# Altium footprint library Xilinx.PcbLib: 3 footprints (part 3 of 3)
Each footprint in its own frame and in the unit in brackets; x right, y up, seen from the top. Pads: shape width x height; smd on the part's side, far side on the other; paste and mask are expansions set on the pad; w line width, h text height; cw(c..) or ccw(c..) is an arc to the next point about the centre after c.
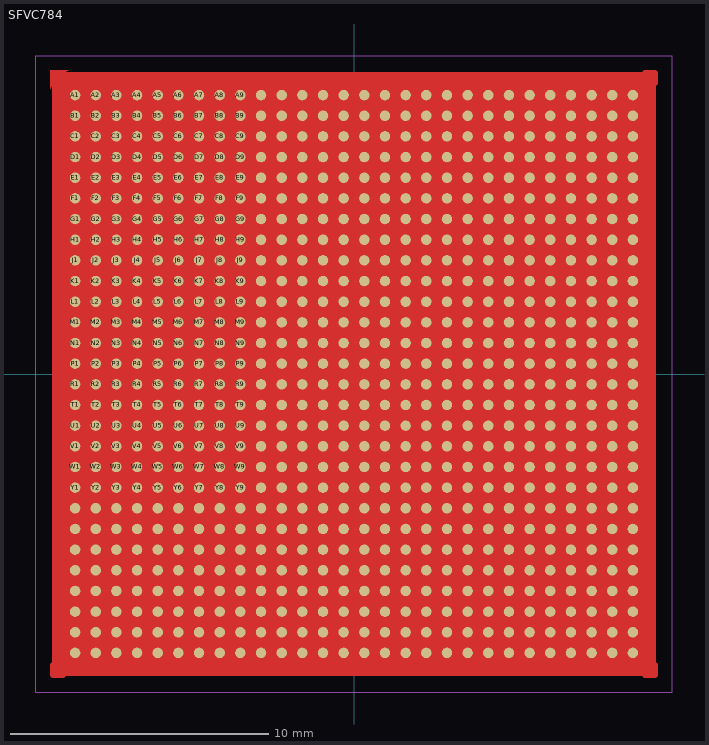
[diagram p2: the footprint, top view; thin cyan lines are the x and y axes]

## SFVC784 [mm]
pads (784):
  round 0.406 smd mask+0.038: A1(-10.8,10.8) A2(-10,10.8) A3(-9.2,10.8) A4(-8.4,10.8) A5(-7.6,10.8) A6(-6.8,10.8) A7(-6,10.8) A8(-5.2,10.8) A9(-4.4,10.8) A10(-3.6,10.8) A11(-2.8,10.8) A12(-2,10.8) A13(-1.2,10.8) A14(-0.4,10.8) A15(0.4,10.8) A16(1.2,10.8) A17(2,10.8) A18(2.8,10.8) A19(3.6,10.8) A20(4.4,10.8) A21(5.2,10.8) A22(6,10.8) A23(6.8,10.8) A24(7.6,10.8) A25(8.4,10.8) A26(9.2,10.8) A27(10,10.8) A28(10.8,10.8) AA1(-10.8,-5.2) AA2(-10,-5.2) AA3(-9.2,-5.2) AA4(-8.4,-5.2) AA5(-7.6,-5.2) AA6(-6.8,-5.2) AA7(-6,-5.2) AA8(-5.2,-5.2) AA9(-4.4,-5.2) AA10(-3.6,-5.2) AA11(-2.8,-5.2) AA12(-2,-5.2) AA13(-1.2,-5.2) AA14(-0.4,-5.2) AA15(0.4,-5.2) AA16(1.2,-5.2) AA17(2,-5.2) AA18(2.8,-5.2) AA19(3.6,-5.2) AA20(4.4,-5.2) AA21(5.2,-5.2) AA22(6,-5.2) AA23(6.8,-5.2) AA24(7.6,-5.2) AA25(8.4,-5.2) AA26(9.2,-5.2) AA27(10,-5.2) AA28(10.8,-5.2) AB1(-10.8,-6) AB2(-10,-6) AB3(-9.2,-6) AB4(-8.4,-6) AB5(-7.6,-6) AB6(-6.8,-6) AB7(-6,-6) AB8(-5.2,-6) AB9(-4.4,-6) AB10(-3.6,-6) AB11(-2.8,-6) AB12(-2,-6) AB13(-1.2,-6) AB14(-0.4,-6) AB15(0.4,-6) AB16(1.2,-6) AB17(2,-6) AB18(2.8,-6) AB19(3.6,-6) AB20(4.4,-6) AB21(5.2,-6) AB22(6,-6) AB23(6.8,-6) AB24(7.6,-6) AB25(8.4,-6) AB26(9.2,-6) AB27(10,-6) AB28(10.8,-6) AC1(-10.8,-6.8) AC2(-10,-6.8) AC3(-9.2,-6.8) AC4(-8.4,-6.8) AC5(-7.6,-6.8) AC6(-6.8,-6.8) AC7(-6,-6.8) AC8(-5.2,-6.8) AC9(-4.4,-6.8) AC10(-3.6,-6.8) AC11(-2.8,-6.8) AC12(-2,-6.8) AC13(-1.2,-6.8) AC14(-0.4,-6.8) AC15(0.4,-6.8) AC16(1.2,-6.8) AC17(2,-6.8) AC18(2.8,-6.8) AC19(3.6,-6.8) AC20(4.4,-6.8) AC21(5.2,-6.8) AC22(6,-6.8) AC23(6.8,-6.8) AC24(7.6,-6.8) AC25(8.4,-6.8) AC26(9.2,-6.8) AC27(10,-6.8) AC28(10.8,-6.8) AD1(-10.8,-7.6) AD2(-10,-7.6) AD3(-9.2,-7.6) AD4(-8.4,-7.6) AD5(-7.6,-7.6) AD6(-6.8,-7.6) AD7(-6,-7.6) AD8(-5.2,-7.6) AD9(-4.4,-7.6) AD10(-3.6,-7.6) AD11(-2.8,-7.6) AD12(-2,-7.6) AD13(-1.2,-7.6) AD14(-0.4,-7.6) AD15(0.4,-7.6) AD16(1.2,-7.6) AD17(2,-7.6) AD18(2.8,-7.6) AD19(3.6,-7.6) AD20(4.4,-7.6) AD21(5.2,-7.6) AD22(6,-7.6) AD23(6.8,-7.6) AD24(7.6,-7.6) AD25(8.4,-7.6) AD26(9.2,-7.6) AD27(10,-7.6) AD28(10.8,-7.6) AE1(-10.8,-8.4) AE2(-10,-8.4) AE3(-9.2,-8.4) AE4(-8.4,-8.4) AE5(-7.6,-8.4) AE6(-6.8,-8.4) AE7(-6,-8.4) AE8(-5.2,-8.4) AE9(-4.4,-8.4) AE10(-3.6,-8.4) AE11(-2.8,-8.4) AE12(-2,-8.4) AE13(-1.2,-8.4) AE14(-0.4,-8.4) AE15(0.4,-8.4) AE16(1.2,-8.4) AE17(2,-8.4) AE18(2.8,-8.4) AE19(3.6,-8.4) AE20(4.4,-8.4) AE21(5.2,-8.4) AE22(6,-8.4) AE23(6.8,-8.4) AE24(7.6,-8.4) AE25(8.4,-8.4) AE26(9.2,-8.4) AE27(10,-8.4) AE28(10.8,-8.4) AF1(-10.8,-9.2) AF2(-10,-9.2) AF3(-9.2,-9.2) AF4(-8.4,-9.2) AF5(-7.6,-9.2) AF6(-6.8,-9.2) AF7(-6,-9.2) AF8(-5.2,-9.2) AF9(-4.4,-9.2) AF10(-3.6,-9.2) AF11(-2.8,-9.2) AF12(-2,-9.2) AF13(-1.2,-9.2) AF14(-0.4,-9.2) AF15(0.4,-9.2) AF16(1.2,-9.2) AF17(2,-9.2) AF18(2.8,-9.2) AF19(3.6,-9.2) AF20(4.4,-9.2) AF21(5.2,-9.2) AF22(6,-9.2) AF23(6.8,-9.2) AF24(7.6,-9.2) AF25(8.4,-9.2) AF26(9.2,-9.2) AF27(10,-9.2) AF28(10.8,-9.2) AG1(-10.8,-10) AG2(-10,-10) AG3(-9.2,-10) AG4(-8.4,-10) AG5(-7.6,-10) AG6(-6.8,-10) AG7(-6,-10) AG8(-5.2,-10) AG9(-4.4,-10) AG10(-3.6,-10) AG11(-2.8,-10) AG12(-2,-10) AG13(-1.2,-10) AG14(-0.4,-10) AG15(0.4,-10) AG16(1.2,-10) AG17(2,-10) AG18(2.8,-10) AG19(3.6,-10) AG20(4.4,-10) AG21(5.2,-10) AG22(6,-10) AG23(6.8,-10) AG24(7.6,-10) AG25(8.4,-10) AG26(9.2,-10) AG27(10,-10) AG28(10.8,-10) AH1(-10.8,-10.8) AH2(-10,-10.8) AH3(-9.2,-10.8) AH4(-8.4,-10.8) AH5(-7.6,-10.8) AH6(-6.8,-10.8) AH7(-6,-10.8) AH8(-5.2,-10.8) AH9(-4.4,-10.8) AH10(-3.6,-10.8) AH11(-2.8,-10.8) AH12(-2,-10.8) AH13(-1.2,-10.8) AH14(-0.4,-10.8) AH15(0.4,-10.8) AH16(1.2,-10.8) AH17(2,-10.8) AH18(2.8,-10.8) AH19(3.6,-10.8) AH20(4.4,-10.8) AH21(5.2,-10.8) AH22(6,-10.8) AH23(6.8,-10.8) AH24(7.6,-10.8) AH25(8.4,-10.8) AH26(9.2,-10.8) AH27(10,-10.8) AH28(10.8,-10.8) B1(-10.8,10) B2(-10,10) B3(-9.2,10) B4(-8.4,10) B5(-7.6,10) B6(-6.8,10) B7(-6,10) B8(-5.2,10) B9(-4.4,10) B10(-3.6,10) B11(-2.8,10) B12(-2,10) B13(-1.2,10) B14(-0.4,10) B15(0.4,10) B16(1.2,10) B17(2,10) B18(2.8,10) B19(3.6,10) B20(4.4,10) B21(5.2,10) B22(6,10) B23(6.8,10) B24(7.6,10) B25(8.4,10) B26(9.2,10) B27(10,10) B28(10.8,10) C1(-10.8,9.2) C2(-10,9.2) C3(-9.2,9.2) C4(-8.4,9.2) C5(-7.6,9.2) C6(-6.8,9.2) C7(-6,9.2) C8(-5.2,9.2) C9(-4.4,9.2) C10(-3.6,9.2) C11(-2.8,9.2) C12(-2,9.2) C13(-1.2,9.2) C14(-0.4,9.2) C15(0.4,9.2) C16(1.2,9.2) C17(2,9.2) C18(2.8,9.2) C19(3.6,9.2) C20(4.4,9.2) C21(5.2,9.2) C22(6,9.2) C23(6.8,9.2) C24(7.6,9.2) C25(8.4,9.2) C26(9.2,9.2) C27(10,9.2) C28(10.8,9.2) D1(-10.8,8.4) D2(-10,8.4) D3(-9.2,8.4) D4(-8.4,8.4) D5(-7.6,8.4) D6(-6.8,8.4) D7(-6,8.4) D8(-5.2,8.4) D9(-4.4,8.4) D10(-3.6,8.4) D11(-2.8,8.4) D12(-2,8.4) D13(-1.2,8.4) D14(-0.4,8.4) D15(0.4,8.4) D16(1.2,8.4) D17(2,8.4) D18(2.8,8.4) D19(3.6,8.4) D20(4.4,8.4) D21(5.2,8.4) D22(6,8.4) D23(6.8,8.4) D24(7.6,8.4) D25(8.4,8.4) D26(9.2,8.4) D27(10,8.4) D28(10.8,8.4) E1(-10.8,7.6) E2(-10,7.6) E3(-9.2,7.6) E4(-8.4,7.6) E5(-7.6,7.6) E6(-6.8,7.6) E7(-6,7.6) E8(-5.2,7.6) E9(-4.4,7.6) E10(-3.6,7.6) E11(-2.8,7.6) E12(-2,7.6) E13(-1.2,7.6) E14(-0.4,7.6) E15(0.4,7.6) E16(1.2,7.6) E17(2,7.6) E18(2.8,7.6) E19(3.6,7.6) E20(4.4,7.6) E21(5.2,7.6) E22(6,7.6) E23(6.8,7.6) E24(7.6,7.6) E25(8.4,7.6) E26(9.2,7.6) E27(10,7.6) E28(10.8,7.6) F1(-10.8,6.8) F2(-10,6.8) F3(-9.2,6.8) F4(-8.4,6.8) F5(-7.6,6.8) F6(-6.8,6.8) F7(-6,6.8) F8(-5.2,6.8) F9(-4.4,6.8) F10(-3.6,6.8) F11(-2.8,6.8) F12(-2,6.8) F13(-1.2,6.8) F14(-0.4,6.8) F15(0.4,6.8) F16(1.2,6.8) F17(2,6.8) F18(2.8,6.8) F19(3.6,6.8) F20(4.4,6.8) F21(5.2,6.8) F22(6,6.8) F23(6.8,6.8) F24(7.6,6.8) F25(8.4,6.8) F26(9.2,6.8) F27(10,6.8) F28(10.8,6.8) G1(-10.8,6) G2(-10,6) G3(-9.2,6) G4(-8.4,6) G5(-7.6,6) G6(-6.8,6) G7(-6,6) G8(-5.2,6) G9(-4.4,6) G10(-3.6,6) G11(-2.8,6) G12(-2,6) G13(-1.2,6) G14(-0.4,6) G15(0.4,6) G16(1.2,6) G17(2,6) G18(2.8,6) G19(3.6,6) G20(4.4,6) G21(5.2,6) G22(6,6) G23(6.8,6) G24(7.6,6) G25(8.4,6) G26(9.2,6) G27(10,6) G28(10.8,6) H1(-10.8,5.2) H2(-10,5.2) H3(-9.2,5.2) H4(-8.4,5.2) H5(-7.6,5.2) H6(-6.8,5.2) H7(-6,5.2) H8(-5.2,5.2) H9(-4.4,5.2) H10(-3.6,5.2) H11(-2.8,5.2) H12(-2,5.2) H13(-1.2,5.2) H14(-0.4,5.2) H15(0.4,5.2) H16(1.2,5.2) H17(2,5.2) H18(2.8,5.2) H19(3.6,5.2) H20(4.4,5.2) H21(5.2,5.2) H22(6,5.2) H23(6.8,5.2) H24(7.6,5.2) H25(8.4,5.2) H26(9.2,5.2) H27(10,5.2) H28(10.8,5.2) J1(-10.8,4.4) J2(-10,4.4) J3(-9.2,4.4) J4(-8.4,4.4) J5(-7.6,4.4) J6(-6.8,4.4) J7(-6,4.4) J8(-5.2,4.4) J9(-4.4,4.4) J10(-3.6,4.4) J11(-2.8,4.4) J12(-2,4.4) J13(-1.2,4.4) J14(-0.4,4.4) J15(0.4,4.4) J16(1.2,4.4) J17(2,4.4) J18(2.8,4.4) J19(3.6,4.4) J20(4.4,4.4) J21(5.2,4.4) J22(6,4.4) J23(6.8,4.4) J24(7.6,4.4) J25(8.4,4.4) J26(9.2,4.4) J27(10,4.4) J28(10.8,4.4) K1(-10.8,3.6) K2(-10,3.6) K3(-9.2,3.6) K4(-8.4,3.6) K5(-7.6,3.6) K6(-6.8,3.6) K7(-6,3.6) K8(-5.2,3.6) K9(-4.4,3.6) K10(-3.6,3.6) K11(-2.8,3.6) K12(-2,3.6) K13(-1.2,3.6) K14(-0.4,3.6) K15(0.4,3.6) K16(1.2,3.6) K17(2,3.6) K18(2.8,3.6) K19(3.6,3.6) K20(4.4,3.6) K21(5.2,3.6) K22(6,3.6) K23(6.8,3.6) K24(7.6,3.6) K25(8.4,3.6) K26(9.2,3.6) K27(10,3.6) K28(10.8,3.6) L1(-10.8,2.8) L2(-10,2.8) L3(-9.2,2.8) L4(-8.4,2.8) L5(-7.6,2.8) L6(-6.8,2.8) L7(-6,2.8) L8(-5.2,2.8) L9(-4.4,2.8) L10(-3.6,2.8) L11(-2.8,2.8) L12(-2,2.8) L13(-1.2,2.8) L14(-0.4,2.8) L15(0.4,2.8) L16(1.2,2.8) L17(2,2.8) L18(2.8,2.8) L19(3.6,2.8) L20(4.4,2.8) L21(5.2,2.8) L22(6,2.8) L23(6.8,2.8) L24(7.6,2.8) L25(8.4,2.8) L26(9.2,2.8) L27(10,2.8) L28(10.8,2.8) M1(-10.8,2) M2(-10,2) M3(-9.2,2) M4(-8.4,2) M5(-7.6,2) M6(-6.8,2) M7(-6,2) M8(-5.2,2) M9(-4.4,2) M10(-3.6,2) M11(-2.8,2) M12(-2,2) M13(-1.2,2) M14(-0.4,2) M15(0.4,2) M16(1.2,2) M17(2,2) M18(2.8,2) M19(3.6,2) M20(4.4,2) M21(5.2,2) M22(6,2) M23(6.8,2) M24(7.6,2) M25(8.4,2) M26(9.2,2) M27(10,2) M28(10.8,2) N1(-10.8,1.2) N2(-10,1.2) N3(-9.2,1.2) N4(-8.4,1.2) N5(-7.6,1.2) N6(-6.8,1.2) N7(-6,1.2) N8(-5.2,1.2) N9(-4.4,1.2) N10(-3.6,1.2) N11(-2.8,1.2) N12(-2,1.2) N13(-1.2,1.2) N14(-0.4,1.2) N15(0.4,1.2) N16(1.2,1.2) N17(2,1.2) N18(2.8,1.2) N19(3.6,1.2) N20(4.4,1.2) N21(5.2,1.2) N22(6,1.2) N23(6.8,1.2) N24(7.6,1.2) N25(8.4,1.2) N26(9.2,1.2) N27(10,1.2) N28(10.8,1.2) P1(-10.8,0.4) P2(-10,0.4) P3(-9.2,0.4) P4(-8.4,0.4) P5(-7.6,0.4) P6(-6.8,0.4) P7(-6,0.4) P8(-5.2,0.4) P9(-4.4,0.4) P10(-3.6,0.4) P11(-2.8,0.4) P12(-2,0.4) P13(-1.2,0.4) P14(-0.4,0.4) P15(0.4,0.4) P16(1.2,0.4) P17(2,0.4) P18(2.8,0.4) P19(3.6,0.4) P20(4.4,0.4) P21(5.2,0.4) P22(6,0.4) P23(6.8,0.4) P24(7.6,0.4) P25(8.4,0.4) P26(9.2,0.4) P27(10,0.4) P28(10.8,0.4) R1(-10.8,-0.4) R2(-10,-0.4) R3(-9.2,-0.4) R4(-8.4,-0.4) R5(-7.6,-0.4) R6(-6.8,-0.4) R7(-6,-0.4) R8(-5.2,-0.4) R9(-4.4,-0.4) R10(-3.6,-0.4) R11(-2.8,-0.4) R12(-2,-0.4) R13(-1.2,-0.4) R14(-0.4,-0.4) R15(0.4,-0.4) R16(1.2,-0.4) R17(2,-0.4) R18(2.8,-0.4) R19(3.6,-0.4) R20(4.4,-0.4) R21(5.2,-0.4) R22(6,-0.4) R23(6.8,-0.4) R24(7.6,-0.4) R25(8.4,-0.4) R26(9.2,-0.4) R27(10,-0.4) R28(10.8,-0.4) T1(-10.8,-1.2) T2(-10,-1.2) T3(-9.2,-1.2) T4(-8.4,-1.2) T5(-7.6,-1.2) T6(-6.8,-1.2) T7(-6,-1.2) T8(-5.2,-1.2) T9(-4.4,-1.2) T10(-3.6,-1.2) T11(-2.8,-1.2) T12(-2,-1.2) T13(-1.2,-1.2) T14(-0.4,-1.2) T15(0.4,-1.2) T16(1.2,-1.2) T17(2,-1.2) T18(2.8,-1.2) T19(3.6,-1.2) T20(4.4,-1.2) T21(5.2,-1.2) T22(6,-1.2) T23(6.8,-1.2) T24(7.6,-1.2) T25(8.4,-1.2) T26(9.2,-1.2) T27(10,-1.2) T28(10.8,-1.2) U1(-10.8,-2) U2(-10,-2) U3(-9.2,-2) U4(-8.4,-2) U5(-7.6,-2) U6(-6.8,-2) U7(-6,-2) U8(-5.2,-2) U9(-4.4,-2) U10(-3.6,-2) U11(-2.8,-2) U12(-2,-2) U13(-1.2,-2) U14(-0.4,-2) U15(0.4,-2) U16(1.2,-2) U17(2,-2) U18(2.8,-2) U19(3.6,-2) U20(4.4,-2) U21(5.2,-2) U22(6,-2) U23(6.8,-2) U24(7.6,-2) U25(8.4,-2) U26(9.2,-2) U27(10,-2) U28(10.8,-2) V1(-10.8,-2.8) V2(-10,-2.8) V3(-9.2,-2.8) V4(-8.4,-2.8) V5(-7.6,-2.8) V6(-6.8,-2.8) V7(-6,-2.8) V8(-5.2,-2.8) V9(-4.4,-2.8) V10(-3.6,-2.8) V11(-2.8,-2.8) V12(-2,-2.8) V13(-1.2,-2.8) V14(-0.4,-2.8) V15(0.4,-2.8) V16(1.2,-2.8) V17(2,-2.8) V18(2.8,-2.8) V19(3.6,-2.8) V20(4.4,-2.8) V21(5.2,-2.8) V22(6,-2.8) V23(6.8,-2.8) V24(7.6,-2.8) V25(8.4,-2.8) V26(9.2,-2.8) V27(10,-2.8) V28(10.8,-2.8) W1(-10.8,-3.6) W2(-10,-3.6) W3(-9.2,-3.6) W4(-8.4,-3.6) W5(-7.6,-3.6) W6(-6.8,-3.6) W7(-6,-3.6) W8(-5.2,-3.6) W9(-4.4,-3.6) W10(-3.6,-3.6) W11(-2.8,-3.6) W12(-2,-3.6) W13(-1.2,-3.6) W14(-0.4,-3.6) W15(0.4,-3.6) W16(1.2,-3.6) W17(2,-3.6) W18(2.8,-3.6) W19(3.6,-3.6) W20(4.4,-3.6) W21(5.2,-3.6) W22(6,-3.6) W23(6.8,-3.6) W24(7.6,-3.6) W25(8.4,-3.6) W26(9.2,-3.6) W27(10,-3.6) W28(10.8,-3.6) Y1(-10.8,-4.4) Y2(-10,-4.4) Y3(-9.2,-4.4) Y4(-8.4,-4.4) Y5(-7.6,-4.4) Y6(-6.8,-4.4) Y7(-6,-4.4) Y8(-5.2,-4.4) Y9(-4.4,-4.4) Y10(-3.6,-4.4) Y11(-2.8,-4.4) Y12(-2,-4.4) Y13(-1.2,-4.4) Y14(-0.4,-4.4) Y15(0.4,-4.4) Y16(1.2,-4.4) Y17(2,-4.4) Y18(2.8,-4.4) Y19(3.6,-4.4) Y20(4.4,-4.4) Y21(5.2,-4.4) Y22(6,-4.4) Y23(6.8,-4.4) Y24(7.6,-4.4) Y25(8.4,-4.4) Y26(9.2,-4.4) Y27(10,-4.4) Y28(10.8,-4.4)
Top Layer:
  pour cut-out: 11.684,-11.684 11.684,11.684 -11.684,11.684 -11.684,-11.684
  region: 11.563,11.258 11.563,11.238 11.578,11.2 11.607,11.172 11.644,11.156 11.664,11.156 11.684,11.156 11.722,11.172 11.75,11.2 11.766,11.238 11.766,11.258 11.766,11.664 11.766,11.684 11.75,11.722 11.722,11.75 11.684,11.766 11.664,11.766 11.258,11.766 11.238,11.766 11.2,11.75 11.172,11.722 11.156,11.684 11.156,11.664 11.156,11.644 11.172,11.607 11.2,11.578 11.238,11.563 11.258,11.563 11.512,11.563 11.522,11.562 11.54,11.554 11.554,11.54 11.562,11.522 11.563,11.512
  region: 11.258,-11.563 11.238,-11.563 11.2,-11.578 11.172,-11.607 11.156,-11.644 11.156,-11.664 11.156,-11.684 11.172,-11.722 11.2,-11.75 11.238,-11.766 11.258,-11.766 11.664,-11.766 11.684,-11.766 11.722,-11.75 11.75,-11.722 11.766,-11.684 11.766,-11.664 11.766,-11.258 11.766,-11.238 11.75,-11.2 11.722,-11.172 11.684,-11.156 11.664,-11.156 11.644,-11.156 11.607,-11.172 11.578,-11.2 11.563,-11.238 11.563,-11.258 11.563,-11.512 11.562,-11.522 11.554,-11.54 11.54,-11.554 11.522,-11.562 11.512,-11.563
  region: -11.563,-11.258 -11.563,-11.238 -11.578,-11.2 -11.607,-11.172 -11.644,-11.156 -11.664,-11.156 -11.684,-11.156 -11.722,-11.172 -11.75,-11.2 -11.766,-11.238 -11.766,-11.258 -11.766,-11.664 -11.766,-11.684 -11.75,-11.722 -11.722,-11.75 -11.684,-11.766 -11.664,-11.766 -11.258,-11.766 -11.238,-11.766 -11.2,-11.75 -11.172,-11.722 -11.156,-11.684 -11.156,-11.664 -11.156,-11.644 -11.172,-11.607 -11.2,-11.578 -11.238,-11.563 -11.258,-11.563 -11.512,-11.563 -11.522,-11.562 -11.54,-11.554 -11.554,-11.54 -11.562,-11.522 -11.563,-11.512
  region: -11.766,11.766 -11.766,11.041 -11.5,11.5 -11.041,11.766
Top Designator:
  text ".Designator" at -3.242,-0.317 h0.89
Top Courtyard:
  lines w0.025: -12.319,-12.319 -12.319,12.319 12.319,12.319 12.319,-12.319 -12.319,-12.319
Top Component Outline:
  lines w0.025: -11.5,-11.3 -11.5,11.3 ; -11.3,-11.5 11.3,-11.5 ; -11.3,11.5 11.3,11.5 ; -9.8,-9 -9.8,9 ; -9,-9.8 9,-9.8 ; -9,9.8 9,9.8 ; 9.8,-9 9.8,9 ; 11.5,-11.3 11.5,11.3
3D body: height 3.12, standoff 2, extent -9.8,-9.8 9.8,9.8
3D body: height 0.43, standoff -0.07, extent -11.049,10.553 -10.551,11.05
3D body: height 0.43, standoff -0.07, extent -10.249,10.553 -9.751,11.05
3D body: height 0.43, standoff -0.07, extent -9.449,10.553 -8.951,11.05
3D body: height 0.43, standoff -0.07, extent -9.449,9.753 -8.951,10.25
3D body: height 0.43, standoff -0.07, extent -10.249,9.753 -9.751,10.25
3D body: height 0.43, standoff -0.07, extent -11.049,9.753 -10.551,10.25
3D body: height 0.43, standoff -0.07, extent -11.049,8.953 -10.551,9.45
3D body: height 0.43, standoff -0.07, extent -10.249,8.953 -9.751,9.45
3D body: height 0.43, standoff -0.07, extent -9.449,8.953 -8.951,9.45
3D body: height 0.43, standoff -0.07, extent -7.049,8.953 -6.551,9.45
3D body: height 0.43, standoff -0.07, extent -7.849,8.953 -7.351,9.45
3D body: height 0.43, standoff -0.07, extent -8.649,8.953 -8.151,9.45
3D body: height 0.43, standoff -0.07, extent -8.649,9.753 -8.151,10.25
3D body: height 0.43, standoff -0.07, extent -7.849,9.753 -7.351,10.25
3D body: height 0.43, standoff -0.07, extent -7.049,9.753 -6.551,10.25
3D body: height 0.43, standoff -0.07, extent -7.049,10.553 -6.551,11.05
3D body: height 0.43, standoff -0.07, extent -7.849,10.553 -7.351,11.05
3D body: height 0.43, standoff -0.07, extent -8.649,10.553 -8.151,11.05
3D body: height 0.43, standoff -0.07, extent -4.649,8.953 -4.151,9.45
3D body: height 0.43, standoff -0.07, extent -5.449,8.953 -4.951,9.45
3D body: height 0.43, standoff -0.07, extent -6.249,8.953 -5.751,9.45
3D body: height 0.43, standoff -0.07, extent -6.249,9.753 -5.751,10.25
3D body: height 0.43, standoff -0.07, extent -5.449,9.753 -4.951,10.25
3D body: height 0.43, standoff -0.07, extent -4.649,9.753 -4.151,10.25
3D body: height 0.43, standoff -0.07, extent -4.649,10.553 -4.151,11.05
3D body: height 0.43, standoff -0.07, extent -5.449,10.553 -4.951,11.05
3D body: height 0.43, standoff -0.07, extent -6.249,10.553 -5.751,11.05
3D body: height 0.43, standoff -0.07, extent -2.249,8.953 -1.751,9.45
3D body: height 0.43, standoff -0.07, extent -3.049,8.953 -2.551,9.45
3D body: height 0.43, standoff -0.07, extent -3.849,8.953 -3.351,9.45
3D body: height 0.43, standoff -0.07, extent -3.849,9.753 -3.351,10.25
3D body: height 0.43, standoff -0.07, extent -3.049,9.753 -2.551,10.25
3D body: height 0.43, standoff -0.07, extent -2.249,9.753 -1.751,10.25
3D body: height 0.43, standoff -0.07, extent -2.249,10.553 -1.751,11.05
3D body: height 0.43, standoff -0.07, extent -3.049,10.553 -2.551,11.05
3D body: height 0.43, standoff -0.07, extent -3.849,10.553 -3.351,11.05
3D body: height 0.43, standoff -0.07, extent 0.151,8.953 0.649,9.45
3D body: height 0.43, standoff -0.07, extent -0.649,8.953 -0.151,9.45
3D body: height 0.43, standoff -0.07, extent -1.449,8.953 -0.951,9.45
3D body: height 0.43, standoff -0.07, extent -1.449,9.753 -0.951,10.25
3D body: height 0.43, standoff -0.07, extent -0.649,9.753 -0.151,10.25
3D body: height 0.43, standoff -0.07, extent 0.151,9.753 0.649,10.25
3D body: height 0.43, standoff -0.07, extent 0.151,10.553 0.649,11.05
3D body: height 0.43, standoff -0.07, extent -0.649,10.553 -0.151,11.05
3D body: height 0.43, standoff -0.07, extent -1.449,10.553 -0.951,11.05
3D body: height 0.43, standoff -0.07, extent 2.551,8.953 3.049,9.45
3D body: height 0.43, standoff -0.07, extent 1.751,8.953 2.249,9.45
3D body: height 0.43, standoff -0.07, extent 0.951,8.953 1.449,9.45
3D body: height 0.43, standoff -0.07, extent 0.951,9.753 1.449,10.25
3D body: height 0.43, standoff -0.07, extent 1.751,9.753 2.249,10.25
3D body: height 0.43, standoff -0.07, extent 2.551,9.753 3.049,10.25
3D body: height 0.43, standoff -0.07, extent 2.551,10.553 3.049,11.05
3D body: height 0.43, standoff -0.07, extent 1.751,10.553 2.249,11.05
3D body: height 0.43, standoff -0.07, extent 0.951,10.553 1.449,11.05
3D body: height 0.43, standoff -0.07, extent 4.951,8.953 5.449,9.45
3D body: height 0.43, standoff -0.07, extent 4.151,8.953 4.649,9.45
3D body: height 0.43, standoff -0.07, extent 3.351,8.953 3.849,9.45
3D body: height 0.43, standoff -0.07, extent 3.351,9.753 3.849,10.25
3D body: height 0.43, standoff -0.07, extent 4.151,9.753 4.649,10.25
3D body: height 0.43, standoff -0.07, extent 4.951,9.753 5.449,10.25
3D body: height 0.43, standoff -0.07, extent 4.951,10.553 5.449,11.05
3D body: height 0.43, standoff -0.07, extent 4.151,10.553 4.649,11.05
3D body: height 0.43, standoff -0.07, extent 3.351,10.553 3.849,11.05
3D body: height 0.43, standoff -0.07, extent 7.351,8.953 7.849,9.45
3D body: height 0.43, standoff -0.07, extent 6.551,8.953 7.049,9.45
3D body: height 0.43, standoff -0.07, extent 5.751,8.953 6.249,9.45
3D body: height 0.43, standoff -0.07, extent 5.751,9.753 6.249,10.25
3D body: height 0.43, standoff -0.07, extent 6.551,9.753 7.049,10.25
3D body: height 0.43, standoff -0.07, extent 7.351,9.753 7.849,10.25
3D body: height 0.43, standoff -0.07, extent 7.351,10.553 7.849,11.05
3D body: height 0.43, standoff -0.07, extent 6.551,10.553 7.049,11.05
3D body: height 0.43, standoff -0.07, extent 5.751,10.553 6.249,11.05
3D body: height 0.43, standoff -0.07, extent 9.751,8.953 10.249,9.45
3D body: height 0.43, standoff -0.07, extent 8.951,8.953 9.449,9.45
3D body: height 0.43, standoff -0.07, extent 8.151,8.953 8.649,9.45
3D body: height 0.43, standoff -0.07, extent 8.151,9.753 8.649,10.25
3D body: height 0.43, standoff -0.07, extent 8.951,9.753 9.449,10.25
3D body: height 0.43, standoff -0.07, extent 9.751,9.753 10.249,10.25
3D body: height 0.43, standoff -0.07, extent 9.751,10.553 10.249,11.05
3D body: height 0.43, standoff -0.07, extent 8.951,10.553 9.449,11.05
3D body: height 0.43, standoff -0.07, extent 8.151,10.553 8.649,11.05
3D body: height 0.43, standoff -0.07, extent 10.551,8.953 11.049,9.45
3D body: height 0.43, standoff -0.07, extent 10.551,9.753 11.049,10.25
3D body: height 0.43, standoff -0.07, extent 10.551,10.553 11.049,11.05
3D body: height 0.43, standoff -0.07, extent 10.551,8.153 11.049,8.65
3D body: height 0.43, standoff -0.07, extent 10.551,7.353 11.049,7.85
3D body: height 0.43, standoff -0.07, extent 10.551,6.553 11.049,7.05
3D body: height 0.43, standoff -0.07, extent 8.151,8.153 8.649,8.65
3D body: height 0.43, standoff -0.07, extent 8.951,8.153 9.449,8.65
3D body: height 0.43, standoff -0.07, extent 9.751,8.153 10.249,8.65
3D body: height 0.43, standoff -0.07, extent 9.751,7.353 10.249,7.85
3D body: height 0.43, standoff -0.07, extent 8.951,7.353 9.449,7.85
3D body: height 0.43, standoff -0.07, extent 8.151,7.353 8.649,7.85
3D body: height 0.43, standoff -0.07, extent 8.151,6.553 8.649,7.05
3D body: height 0.43, standoff -0.07, extent 8.951,6.553 9.449,7.05
3D body: height 0.43, standoff -0.07, extent 9.751,6.553 10.249,7.05
3D body: height 0.43, standoff -0.07, extent 5.751,8.153 6.249,8.65
3D body: height 0.43, standoff -0.07, extent 6.551,8.153 7.049,8.65
3D body: height 0.43, standoff -0.07, extent 7.351,8.153 7.849,8.65
3D body: height 0.43, standoff -0.07, extent 7.351,7.353 7.849,7.85
3D body: height 0.43, standoff -0.07, extent 6.551,7.353 7.049,7.85
3D body: height 0.43, standoff -0.07, extent 5.751,7.353 6.249,7.85
3D body: height 0.43, standoff -0.07, extent 5.751,6.553 6.249,7.05
3D body: height 0.43, standoff -0.07, extent 6.551,6.553 7.049,7.05
3D body: height 0.43, standoff -0.07, extent 7.351,6.553 7.849,7.05
3D body: height 0.43, standoff -0.07, extent 3.351,8.153 3.849,8.65
3D body: height 0.43, standoff -0.07, extent 4.151,8.153 4.649,8.65
3D body: height 0.43, standoff -0.07, extent 4.951,8.153 5.449,8.65
3D body: height 0.43, standoff -0.07, extent 4.951,7.353 5.449,7.85
3D body: height 0.43, standoff -0.07, extent 4.151,7.353 4.649,7.85
3D body: height 0.43, standoff -0.07, extent 3.351,7.353 3.849,7.85
3D body: height 0.43, standoff -0.07, extent 3.351,6.553 3.849,7.05
3D body: height 0.43, standoff -0.07, extent 4.151,6.553 4.649,7.05
3D body: height 0.43, standoff -0.07, extent 4.951,6.553 5.449,7.05
3D body: height 0.43, standoff -0.07, extent 0.951,8.153 1.449,8.65
3D body: height 0.43, standoff -0.07, extent 1.751,8.153 2.249,8.65
3D body: height 0.43, standoff -0.07, extent 2.551,8.153 3.049,8.65
3D body: height 0.43, standoff -0.07, extent 2.551,7.353 3.049,7.85
3D body: height 0.43, standoff -0.07, extent 1.751,7.353 2.249,7.85
3D body: height 0.43, standoff -0.07, extent 0.951,7.353 1.449,7.85
3D body: height 0.43, standoff -0.07, extent 0.951,6.553 1.449,7.05
3D body: height 0.43, standoff -0.07, extent 1.751,6.553 2.249,7.05
3D body: height 0.43, standoff -0.07, extent 2.551,6.553 3.049,7.05
3D body: height 0.43, standoff -0.07, extent -1.449,8.153 -0.951,8.65
3D body: height 0.43, standoff -0.07, extent -0.649,8.153 -0.151,8.65
3D body: height 0.43, standoff -0.07, extent 0.151,8.153 0.649,8.65
3D body: height 0.43, standoff -0.07, extent 0.151,7.353 0.649,7.85
3D body: height 0.43, standoff -0.07, extent -0.649,7.353 -0.151,7.85
3D body: height 0.43, standoff -0.07, extent -1.449,7.353 -0.951,7.85
3D body: height 0.43, standoff -0.07, extent -1.449,6.553 -0.951,7.05
3D body: height 0.43, standoff -0.07, extent -0.649,6.553 -0.151,7.05
3D body: height 0.43, standoff -0.07, extent 0.151,6.553 0.649,7.05
3D body: height 0.43, standoff -0.07, extent -3.849,8.153 -3.351,8.65
3D body: height 0.43, standoff -0.07, extent -3.049,8.153 -2.551,8.65
3D body: height 0.43, standoff -0.07, extent -2.249,8.153 -1.751,8.65
3D body: height 0.43, standoff -0.07, extent -2.249,7.353 -1.751,7.85
3D body: height 0.43, standoff -0.07, extent -3.049,7.353 -2.551,7.85
3D body: height 0.43, standoff -0.07, extent -3.849,7.353 -3.351,7.85
3D body: height 0.43, standoff -0.07, extent -3.849,6.553 -3.351,7.05
3D body: height 0.43, standoff -0.07, extent -3.049,6.553 -2.551,7.05
3D body: height 0.43, standoff -0.07, extent -2.249,6.553 -1.751,7.05
3D body: height 0.43, standoff -0.07, extent -6.249,8.153 -5.751,8.65
3D body: height 0.43, standoff -0.07, extent -5.449,8.153 -4.951,8.65
3D body: height 0.43, standoff -0.07, extent -4.649,8.153 -4.151,8.65
3D body: height 0.43, standoff -0.07, extent -4.649,7.353 -4.151,7.85
3D body: height 0.43, standoff -0.07, extent -5.449,7.353 -4.951,7.85
3D body: height 0.43, standoff -0.07, extent -6.249,7.353 -5.751,7.85
3D body: height 0.43, standoff -0.07, extent -6.249,6.553 -5.751,7.05
3D body: height 0.43, standoff -0.07, extent -5.449,6.553 -4.951,7.05
3D body: height 0.43, standoff -0.07, extent -4.649,6.553 -4.151,7.05
3D body: height 0.43, standoff -0.07, extent -8.649,8.153 -8.151,8.65
3D body: height 0.43, standoff -0.07, extent -7.849,8.153 -7.351,8.65
3D body: height 0.43, standoff -0.07, extent -7.049,8.153 -6.551,8.65
3D body: height 0.43, standoff -0.07, extent -7.049,7.353 -6.551,7.85
3D body: height 0.43, standoff -0.07, extent -7.849,7.353 -7.351,7.85
3D body: height 0.43, standoff -0.07, extent -8.649,7.353 -8.151,7.85
3D body: height 0.43, standoff -0.07, extent -8.649,6.553 -8.151,7.05
3D body: height 0.43, standoff -0.07, extent -7.849,6.553 -7.351,7.05
3D body: height 0.43, standoff -0.07, extent -7.049,6.553 -6.551,7.05
3D body: height 0.43, standoff -0.07, extent -9.449,6.553 -8.951,7.05
3D body: height 0.43, standoff -0.07, extent -10.249,6.553 -9.751,7.05
3D body: height 0.43, standoff -0.07, extent -11.049,6.553 -10.551,7.05
3D body: height 0.43, standoff -0.07, extent -11.049,7.353 -10.551,7.85
3D body: height 0.43, standoff -0.07, extent -10.249,7.353 -9.751,7.85
3D body: height 0.43, standoff -0.07, extent -9.449,7.353 -8.951,7.85
3D body: height 0.43, standoff -0.07, extent -9.449,8.153 -8.951,8.65
3D body: height 0.43, standoff -0.07, extent -10.249,8.153 -9.751,8.65
3D body: height 0.43, standoff -0.07, extent -11.049,8.153 -10.551,8.65
3D body: height 0.43, standoff -0.07, extent 10.551,5.753 11.049,6.25
3D body: height 0.43, standoff -0.07, extent 10.551,4.953 11.049,5.45
3D body: height 0.43, standoff -0.07, extent 10.551,4.153 11.049,4.65
3D body: height 0.43, standoff -0.07, extent 8.151,5.753 8.649,6.25
3D body: height 0.43, standoff -0.07, extent 8.951,5.753 9.449,6.25
3D body: height 0.43, standoff -0.07, extent 9.751,5.753 10.249,6.25
3D body: height 0.43, standoff -0.07, extent 9.751,4.953 10.249,5.45
3D body: height 0.43, standoff -0.07, extent 8.951,4.953 9.449,5.45
3D body: height 0.43, standoff -0.07, extent 8.151,4.953 8.649,5.45
3D body: height 0.43, standoff -0.07, extent 8.151,4.153 8.649,4.65
3D body: height 0.43, standoff -0.07, extent 8.951,4.153 9.449,4.65
3D body: height 0.43, standoff -0.07, extent 9.751,4.153 10.249,4.65
3D body: height 0.43, standoff -0.07, extent 5.751,5.753 6.249,6.25
3D body: height 0.43, standoff -0.07, extent 6.551,5.753 7.049,6.25
3D body: height 0.43, standoff -0.07, extent 7.351,5.753 7.849,6.25
3D body: height 0.43, standoff -0.07, extent 7.351,4.953 7.849,5.45
3D body: height 0.43, standoff -0.07, extent 6.551,4.953 7.049,5.45
3D body: height 0.43, standoff -0.07, extent 5.751,4.953 6.249,5.45
3D body: height 0.43, standoff -0.07, extent 5.751,4.153 6.249,4.65
3D body: height 0.43, standoff -0.07, extent 6.551,4.153 7.049,4.65
3D body: height 0.43, standoff -0.07, extent 7.351,4.153 7.849,4.65
3D body: height 0.43, standoff -0.07, extent 3.351,5.753 3.849,6.25
3D body: height 0.43, standoff -0.07, extent 4.151,5.753 4.649,6.25
3D body: height 0.43, standoff -0.07, extent 4.951,5.753 5.449,6.25
3D body: height 0.43, standoff -0.07, extent 4.951,4.953 5.449,5.45
3D body: height 0.43, standoff -0.07, extent 4.151,4.953 4.649,5.45
3D body: height 0.43, standoff -0.07, extent 3.351,4.953 3.849,5.45
3D body: height 0.43, standoff -0.07, extent 3.351,4.153 3.849,4.65
3D body: height 0.43, standoff -0.07, extent 4.151,4.153 4.649,4.65
3D body: height 0.43, standoff -0.07, extent 4.951,4.153 5.449,4.65
3D body: height 0.43, standoff -0.07, extent 0.951,5.753 1.449,6.25
3D body: height 0.43, standoff -0.07, extent 1.751,5.753 2.249,6.25
3D body: height 0.43, standoff -0.07, extent 2.551,5.753 3.049,6.25
3D body: height 0.43, standoff -0.07, extent 2.551,4.953 3.049,5.45
3D body: height 0.43, standoff -0.07, extent 1.751,4.953 2.249,5.45
3D body: height 0.43, standoff -0.07, extent 0.951,4.953 1.449,5.45
3D body: height 0.43, standoff -0.07, extent 0.951,4.153 1.449,4.65
3D body: height 0.43, standoff -0.07, extent 1.751,4.153 2.249,4.65
3D body: height 0.43, standoff -0.07, extent 2.551,4.153 3.049,4.65
3D body: height 0.43, standoff -0.07, extent -1.449,5.753 -0.951,6.25
3D body: height 0.43, standoff -0.07, extent -0.649,5.753 -0.151,6.25
3D body: height 0.43, standoff -0.07, extent 0.151,5.753 0.649,6.25
3D body: height 0.43, standoff -0.07, extent 0.151,4.953 0.649,5.45
3D body: height 0.43, standoff -0.07, extent -0.649,4.953 -0.151,5.45
3D body: height 0.43, standoff -0.07, extent -1.449,4.953 -0.951,5.45
3D body: height 0.43, standoff -0.07, extent -1.449,4.153 -0.951,4.65
3D body: height 0.43, standoff -0.07, extent -0.649,4.153 -0.151,4.65
3D body: height 0.43, standoff -0.07, extent 0.151,4.153 0.649,4.65
3D body: height 0.43, standoff -0.07, extent -3.849,5.753 -3.351,6.25
3D body: height 0.43, standoff -0.07, extent -3.049,5.753 -2.551,6.25
3D body: height 0.43, standoff -0.07, extent -2.249,5.753 -1.751,6.25
3D body: height 0.43, standoff -0.07, extent -2.249,4.953 -1.751,5.45
3D body: height 0.43, standoff -0.07, extent -3.049,4.953 -2.551,5.45
3D body: height 0.43, standoff -0.07, extent -3.849,4.953 -3.351,5.45
3D body: height 0.43, standoff -0.07, extent -3.849,4.153 -3.351,4.65
3D body: height 0.43, standoff -0.07, extent -3.049,4.153 -2.551,4.65
3D body: height 0.43, standoff -0.07, extent -2.249,4.153 -1.751,4.65
3D body: height 0.43, standoff -0.07, extent -6.249,5.753 -5.751,6.25
3D body: height 0.43, standoff -0.07, extent -5.449,5.753 -4.951,6.25
3D body: height 0.43, standoff -0.07, extent -4.649,5.753 -4.151,6.25
3D body: height 0.43, standoff -0.07, extent -4.649,4.953 -4.151,5.45
3D body: height 0.43, standoff -0.07, extent -5.449,4.953 -4.951,5.45
3D body: height 0.43, standoff -0.07, extent -6.249,4.953 -5.751,5.45
3D body: height 0.43, standoff -0.07, extent -6.249,4.153 -5.751,4.65
3D body: height 0.43, standoff -0.07, extent -5.449,4.153 -4.951,4.65
3D body: height 0.43, standoff -0.07, extent -4.649,4.153 -4.151,4.65
3D body: height 0.43, standoff -0.07, extent -8.649,5.753 -8.151,6.25
3D body: height 0.43, standoff -0.07, extent -7.849,5.753 -7.351,6.25
3D body: height 0.43, standoff -0.07, extent -7.049,5.753 -6.551,6.25
3D body: height 0.43, standoff -0.07, extent -7.049,4.953 -6.551,5.45
3D body: height 0.43, standoff -0.07, extent -7.849,4.953 -7.351,5.45
3D body: height 0.43, standoff -0.07, extent -8.649,4.953 -8.151,5.45
3D body: height 0.43, standoff -0.07, extent -8.649,4.153 -8.151,4.65
3D body: height 0.43, standoff -0.07, extent -7.849,4.153 -7.351,4.65
3D body: height 0.43, standoff -0.07, extent -7.049,4.153 -6.551,4.65
3D body: height 0.43, standoff -0.07, extent -9.449,4.153 -8.951,4.65
3D body: height 0.43, standoff -0.07, extent -10.249,4.153 -9.751,4.65
3D body: height 0.43, standoff -0.07, extent -11.049,4.153 -10.551,4.65
3D body: height 0.43, standoff -0.07, extent -11.049,4.953 -10.551,5.45
3D body: height 0.43, standoff -0.07, extent -10.249,4.953 -9.751,5.45
3D body: height 0.43, standoff -0.07, extent -9.449,4.953 -8.951,5.45
3D body: height 0.43, standoff -0.07, extent -9.449,5.753 -8.951,6.25
3D body: height 0.43, standoff -0.07, extent -10.249,5.753 -9.751,6.25
3D body: height 0.43, standoff -0.07, extent -11.049,5.753 -10.551,6.25
3D body: height 0.43, standoff -0.07, extent 10.551,3.353 11.049,3.85
3D body: height 0.43, standoff -0.07, extent 10.551,2.553 11.049,3.05
3D body: height 0.43, standoff -0.07, extent 10.551,1.753 11.049,2.25
3D body: height 0.43, standoff -0.07, extent 8.151,3.353 8.649,3.85
3D body: height 0.43, standoff -0.07, extent 8.951,3.353 9.449,3.85
3D body: height 0.43, standoff -0.07, extent 9.751,3.353 10.249,3.85
3D body: height 0.43, standoff -0.07, extent 9.751,2.553 10.249,3.05
3D body: height 0.43, standoff -0.07, extent 8.951,2.553 9.449,3.05
3D body: height 0.43, standoff -0.07, extent 8.151,2.553 8.649,3.05
3D body: height 0.43, standoff -0.07, extent 8.151,1.753 8.649,2.25
3D body: height 0.43, standoff -0.07, extent 8.951,1.753 9.449,2.25
3D body: height 0.43, standoff -0.07, extent 9.751,1.753 10.249,2.25
3D body: height 0.43, standoff -0.07, extent 5.751,3.353 6.249,3.85
3D body: height 0.43, standoff -0.07, extent 6.551,3.353 7.049,3.85
3D body: height 0.43, standoff -0.07, extent 7.351,3.353 7.849,3.85
3D body: height 0.43, standoff -0.07, extent 7.351,2.553 7.849,3.05
3D body: height 0.43, standoff -0.07, extent 6.551,2.553 7.049,3.05
3D body: height 0.43, standoff -0.07, extent 5.751,2.553 6.249,3.05
3D body: height 0.43, standoff -0.07, extent 5.751,1.753 6.249,2.25
3D body: height 0.43, standoff -0.07, extent 6.551,1.753 7.049,2.25
3D body: height 0.43, standoff -0.07, extent 7.351,1.753 7.849,2.25
3D body: height 0.43, standoff -0.07, extent 3.351,3.353 3.849,3.85
3D body: height 0.43, standoff -0.07, extent 4.151,3.353 4.649,3.85
3D body: height 0.43, standoff -0.07, extent 4.951,3.353 5.449,3.85
3D body: height 0.43, standoff -0.07, extent 4.951,2.553 5.449,3.05
3D body: height 0.43, standoff -0.07, extent 4.151,2.553 4.649,3.05
3D body: height 0.43, standoff -0.07, extent 3.351,2.553 3.849,3.05
3D body: height 0.43, standoff -0.07, extent 3.351,1.753 3.849,2.25
3D body: height 0.43, standoff -0.07, extent 4.151,1.753 4.649,2.25
3D body: height 0.43, standoff -0.07, extent 4.951,1.753 5.449,2.25
3D body: height 0.43, standoff -0.07, extent 0.951,3.353 1.449,3.85
3D body: height 0.43, standoff -0.07, extent 1.751,3.353 2.249,3.85
3D body: height 0.43, standoff -0.07, extent 2.551,3.353 3.049,3.85
3D body: height 0.43, standoff -0.07, extent 2.551,2.553 3.049,3.05
3D body: height 0.43, standoff -0.07, extent 1.751,2.553 2.249,3.05
3D body: height 0.43, standoff -0.07, extent 0.951,2.553 1.449,3.05
3D body: height 0.43, standoff -0.07, extent 0.951,1.753 1.449,2.25
3D body: height 0.43, standoff -0.07, extent 1.751,1.753 2.249,2.25
3D body: height 0.43, standoff -0.07, extent 2.551,1.753 3.049,2.25
3D body: height 0.43, standoff -0.07, extent -1.449,3.353 -0.951,3.85
3D body: height 0.43, standoff -0.07, extent -0.649,3.353 -0.151,3.85
3D body: height 0.43, standoff -0.07, extent 0.151,3.353 0.649,3.85
3D body: height 0.43, standoff -0.07, extent 0.151,2.553 0.649,3.05
3D body: height 0.43, standoff -0.07, extent -0.649,2.553 -0.151,3.05
3D body: height 0.43, standoff -0.07, extent -1.449,2.553 -0.951,3.05
3D body: height 0.43, standoff -0.07, extent -1.449,1.753 -0.951,2.25
3D body: height 0.43, standoff -0.07, extent -0.649,1.753 -0.151,2.25
3D body: height 0.43, standoff -0.07, extent 0.151,1.753 0.649,2.25
3D body: height 0.43, standoff -0.07, extent -3.849,3.353 -3.351,3.85
3D body: height 0.43, standoff -0.07, extent -3.049,3.353 -2.551,3.85
3D body: height 0.43, standoff -0.07, extent -2.249,3.353 -1.751,3.85
3D body: height 0.43, standoff -0.07, extent -2.249,2.553 -1.751,3.05
3D body: height 0.43, standoff -0.07, extent -3.049,2.553 -2.551,3.05
3D body: height 0.43, standoff -0.07, extent -3.849,2.553 -3.351,3.05
3D body: height 0.43, standoff -0.07, extent -3.849,1.753 -3.351,2.25
3D body: height 0.43, standoff -0.07, extent -3.049,1.753 -2.551,2.25
3D body: height 0.43, standoff -0.07, extent -2.249,1.753 -1.751,2.25
3D body: height 0.43, standoff -0.07, extent -6.249,3.353 -5.751,3.85
3D body: height 0.43, standoff -0.07, extent -5.449,3.353 -4.951,3.85
3D body: height 0.43, standoff -0.07, extent -4.649,3.353 -4.151,3.85
3D body: height 0.43, standoff -0.07, extent -4.649,2.553 -4.151,3.05
3D body: height 0.43, standoff -0.07, extent -5.449,2.553 -4.951,3.05
3D body: height 0.43, standoff -0.07, extent -6.249,2.553 -5.751,3.05
3D body: height 0.43, standoff -0.07, extent -6.249,1.753 -5.751,2.25
3D body: height 0.43, standoff -0.07, extent -5.449,1.753 -4.951,2.25
3D body: height 0.43, standoff -0.07, extent -4.649,1.753 -4.151,2.25
3D body: height 0.43, standoff -0.07, extent -8.649,3.353 -8.151,3.85
3D body: height 0.43, standoff -0.07, extent -7.849,3.353 -7.351,3.85
3D body: height 0.43, standoff -0.07, extent -7.049,3.353 -6.551,3.85
3D body: height 0.43, standoff -0.07, extent -7.049,2.553 -6.551,3.05
3D body: height 0.43, standoff -0.07, extent -7.849,2.553 -7.351,3.05
3D body: height 0.43, standoff -0.07, extent -8.649,2.553 -8.151,3.05
3D body: height 0.43, standoff -0.07, extent -8.649,1.753 -8.151,2.25
3D body: height 0.43, standoff -0.07, extent -7.849,1.753 -7.351,2.25
3D body: height 0.43, standoff -0.07, extent -7.049,1.753 -6.551,2.25
3D body: height 0.43, standoff -0.07, extent -9.449,1.753 -8.951,2.25
3D body: height 0.43, standoff -0.07, extent -10.249,1.753 -9.751,2.25
3D body: height 0.43, standoff -0.07, extent -11.049,1.753 -10.551,2.25
3D body: height 0.43, standoff -0.07, extent -11.049,2.553 -10.551,3.05
3D body: height 0.43, standoff -0.07, extent -10.249,2.553 -9.751,3.05
3D body: height 0.43, standoff -0.07, extent -9.449,2.553 -8.951,3.05
3D body: height 0.43, standoff -0.07, extent -9.449,3.353 -8.951,3.85
3D body: height 0.43, standoff -0.07, extent -10.249,3.353 -9.751,3.85
3D body: height 0.43, standoff -0.07, extent -11.049,3.353 -10.551,3.85
3D body: height 0.43, standoff -0.07, extent 10.551,0.953 11.049,1.45
3D body: height 0.43, standoff -0.07, extent 10.551,0.153 11.049,0.65
3D body: height 0.43, standoff -0.07, extent 10.551,-0.647 11.049,-0.15
3D body: height 0.43, standoff -0.07, extent 8.151,0.953 8.649,1.45
3D body: height 0.43, standoff -0.07, extent 8.951,0.953 9.449,1.45
3D body: height 0.43, standoff -0.07, extent 9.751,0.953 10.249,1.45
3D body: height 0.43, standoff -0.07, extent 9.751,0.153 10.249,0.65
3D body: height 0.43, standoff -0.07, extent 8.951,0.153 9.449,0.65
3D body: height 0.43, standoff -0.07, extent 8.151,0.153 8.649,0.65
3D body: height 0.43, standoff -0.07, extent 8.151,-0.647 8.649,-0.15
3D body: height 0.43, standoff -0.07, extent 8.951,-0.647 9.449,-0.15
3D body: height 0.43, standoff -0.07, extent 9.751,-0.647 10.249,-0.15
3D body: height 0.43, standoff -0.07, extent 5.751,0.953 6.249,1.45
3D body: height 0.43, standoff -0.07, extent 6.551,0.953 7.049,1.45
3D body: height 0.43, standoff -0.07, extent 7.351,0.953 7.849,1.45
3D body: height 0.43, standoff -0.07, extent 7.351,0.153 7.849,0.65
3D body: height 0.43, standoff -0.07, extent 6.551,0.153 7.049,0.65
3D body: height 0.43, standoff -0.07, extent 5.751,0.153 6.249,0.65
3D body: height 0.43, standoff -0.07, extent 5.751,-0.647 6.249,-0.15
3D body: height 0.43, standoff -0.07, extent 6.551,-0.647 7.049,-0.15
3D body: height 0.43, standoff -0.07, extent 7.351,-0.647 7.849,-0.15
3D body: height 0.43, standoff -0.07, extent 3.351,0.953 3.849,1.45
3D body: height 0.43, standoff -0.07, extent 4.151,0.953 4.649,1.45
3D body: height 0.43, standoff -0.07, extent 4.951,0.953 5.449,1.45
3D body: height 0.43, standoff -0.07, extent 4.951,0.153 5.449,0.65
3D body: height 0.43, standoff -0.07, extent 4.151,0.153 4.649,0.65
3D body: height 0.43, standoff -0.07, extent 3.351,0.153 3.849,0.65
3D body: height 0.43, standoff -0.07, extent 3.351,-0.647 3.849,-0.15
3D body: height 0.43, standoff -0.07, extent 4.151,-0.647 4.649,-0.15
3D body: height 0.43, standoff -0.07, extent 4.951,-0.647 5.449,-0.15
3D body: height 0.43, standoff -0.07, extent 0.951,0.953 1.449,1.45
3D body: height 0.43, standoff -0.07, extent 1.751,0.953 2.249,1.45
3D body: height 0.43, standoff -0.07, extent 2.551,0.953 3.049,1.45
3D body: height 0.43, standoff -0.07, extent 2.551,0.153 3.049,0.65
3D body: height 0.43, standoff -0.07, extent 1.751,0.153 2.249,0.65
3D body: height 0.43, standoff -0.07, extent 0.951,0.153 1.449,0.65
3D body: height 0.43, standoff -0.07, extent 0.951,-0.647 1.449,-0.15
3D body: height 0.43, standoff -0.07, extent 1.751,-0.647 2.249,-0.15
3D body: height 0.43, standoff -0.07, extent 2.551,-0.647 3.049,-0.15
3D body: height 0.43, standoff -0.07, extent -1.449,0.953 -0.951,1.45
3D body: height 0.43, standoff -0.07, extent -0.649,0.953 -0.151,1.45
3D body: height 0.43, standoff -0.07, extent 0.151,0.953 0.649,1.45
3D body: height 0.43, standoff -0.07, extent 0.151,0.153 0.649,0.65
3D body: height 0.43, standoff -0.07, extent -0.649,0.153 -0.151,0.65
3D body: height 0.43, standoff -0.07, extent -1.449,0.153 -0.951,0.65
3D body: height 0.43, standoff -0.07, extent -1.449,-0.647 -0.951,-0.15
3D body: height 0.43, standoff -0.07, extent -0.649,-0.647 -0.151,-0.15
3D body: height 0.43, standoff -0.07, extent 0.151,-0.647 0.649,-0.15
3D body: height 0.43, standoff -0.07, extent -3.849,0.953 -3.351,1.45
3D body: height 0.43, standoff -0.07, extent -3.049,0.953 -2.551,1.45
3D body: height 0.43, standoff -0.07, extent -2.249,0.953 -1.751,1.45
3D body: height 0.43, standoff -0.07, extent -2.249,0.153 -1.751,0.65
3D body: height 0.43, standoff -0.07, extent -3.049,0.153 -2.551,0.65
3D body: height 0.43, standoff -0.07, extent -3.849,0.153 -3.351,0.65
3D body: height 0.43, standoff -0.07, extent -3.849,-0.647 -3.351,-0.15
3D body: height 0.43, standoff -0.07, extent -3.049,-0.647 -2.551,-0.15
3D body: height 0.43, standoff -0.07, extent -2.249,-0.647 -1.751,-0.15
3D body: height 0.43, standoff -0.07, extent -6.249,0.953 -5.751,1.45
3D body: height 0.43, standoff -0.07, extent -5.449,0.953 -4.951,1.45
3D body: height 0.43, standoff -0.07, extent -4.649,0.953 -4.151,1.45
3D body: height 0.43, standoff -0.07, extent -4.649,0.153 -4.151,0.65
3D body: height 0.43, standoff -0.07, extent -5.449,0.153 -4.951,0.65
3D body: height 0.43, standoff -0.07, extent -6.249,0.153 -5.751,0.65
3D body: height 0.43, standoff -0.07, extent -6.249,-0.647 -5.751,-0.15
3D body: height 0.43, standoff -0.07, extent -5.449,-0.647 -4.951,-0.15
3D body: height 0.43, standoff -0.07, extent -4.649,-0.647 -4.151,-0.15
3D body: height 0.43, standoff -0.07, extent -8.649,0.953 -8.151,1.45
3D body: height 0.43, standoff -0.07, extent -7.849,0.953 -7.351,1.45
3D body: height 0.43, standoff -0.07, extent -7.049,0.953 -6.551,1.45
3D body: height 0.43, standoff -0.07, extent -7.049,0.153 -6.551,0.65
3D body: height 0.43, standoff -0.07, extent -7.849,0.153 -7.351,0.65
3D body: height 0.43, standoff -0.07, extent -8.649,0.153 -8.151,0.65
3D body: height 0.43, standoff -0.07, extent -8.649,-0.647 -8.151,-0.15
3D body: height 0.43, standoff -0.07, extent -7.849,-0.647 -7.351,-0.15
3D body: height 0.43, standoff -0.07, extent -7.049,-0.647 -6.551,-0.15
3D body: height 0.43, standoff -0.07, extent -9.449,-0.647 -8.951,-0.15
3D body: height 0.43, standoff -0.07, extent -10.249,-0.647 -9.751,-0.15
3D body: height 0.43, standoff -0.07, extent -11.049,-0.647 -10.551,-0.15
3D body: height 0.43, standoff -0.07, extent -11.049,0.153 -10.551,0.65
3D body: height 0.43, standoff -0.07, extent -10.249,0.153 -9.751,0.65
3D body: height 0.43, standoff -0.07, extent -9.449,0.153 -8.951,0.65
3D body: height 0.43, standoff -0.07, extent -9.449,0.953 -8.951,1.45
3D body: height 0.43, standoff -0.07, extent -10.249,0.953 -9.751,1.45
3D body: height 0.43, standoff -0.07, extent -11.049,0.953 -10.551,1.45
3D body: height 0.43, standoff -0.07, extent 10.551,-1.447 11.049,-0.95
3D body: height 0.43, standoff -0.07, extent 10.551,-2.247 11.049,-1.75
3D body: height 0.43, standoff -0.07, extent 10.551,-3.047 11.049,-2.55
3D body: height 0.43, standoff -0.07, extent 8.151,-1.447 8.649,-0.95
3D body: height 0.43, standoff -0.07, extent 8.951,-1.447 9.449,-0.95
3D body: height 0.43, standoff -0.07, extent 9.751,-1.447 10.249,-0.95
3D body: height 0.43, standoff -0.07, extent 9.751,-2.247 10.249,-1.75
3D body: height 0.43, standoff -0.07, extent 8.951,-2.247 9.449,-1.75
3D body: height 0.43, standoff -0.07, extent 8.151,-2.247 8.649,-1.75
3D body: height 0.43, standoff -0.07, extent 8.151,-3.047 8.649,-2.55
3D body: height 0.43, standoff -0.07, extent 8.951,-3.047 9.449,-2.55
3D body: height 0.43, standoff -0.07, extent 9.751,-3.047 10.249,-2.55
3D body: height 0.43, standoff -0.07, extent 5.751,-1.447 6.249,-0.95
3D body: height 0.43, standoff -0.07, extent 6.551,-1.447 7.049,-0.95
3D body: height 0.43, standoff -0.07, extent 7.351,-1.447 7.849,-0.95
3D body: height 0.43, standoff -0.07, extent 7.351,-2.247 7.849,-1.75
3D body: height 0.43, standoff -0.07, extent 6.551,-2.247 7.049,-1.75
3D body: height 0.43, standoff -0.07, extent 5.751,-2.247 6.249,-1.75
3D body: height 0.43, standoff -0.07, extent 5.751,-3.047 6.249,-2.55
3D body: height 0.43, standoff -0.07, extent 6.551,-3.047 7.049,-2.55
3D body: height 0.43, standoff -0.07, extent 7.351,-3.047 7.849,-2.55
3D body: height 0.43, standoff -0.07, extent 3.351,-1.447 3.849,-0.95
3D body: height 0.43, standoff -0.07, extent 4.151,-1.447 4.649,-0.95
3D body: height 0.43, standoff -0.07, extent 4.951,-1.447 5.449,-0.95
3D body: height 0.43, standoff -0.07, extent 4.951,-2.247 5.449,-1.75
3D body: height 0.43, standoff -0.07, extent 4.151,-2.247 4.649,-1.75
3D body: height 0.43, standoff -0.07, extent 3.351,-2.247 3.849,-1.75
3D body: height 0.43, standoff -0.07, extent 3.351,-3.047 3.849,-2.55
3D body: height 0.43, standoff -0.07, extent 4.151,-3.047 4.649,-2.55
3D body: height 0.43, standoff -0.07, extent 4.951,-3.047 5.449,-2.55
3D body: height 0.43, standoff -0.07, extent 0.951,-1.447 1.449,-0.95
3D body: height 0.43, standoff -0.07, extent 1.751,-1.447 2.249,-0.95
3D body: height 0.43, standoff -0.07, extent 2.551,-1.447 3.049,-0.95
3D body: height 0.43, standoff -0.07, extent 2.551,-2.247 3.049,-1.75
3D body: height 0.43, standoff -0.07, extent 1.751,-2.247 2.249,-1.75
3D body: height 0.43, standoff -0.07, extent 0.951,-2.247 1.449,-1.75
3D body: height 0.43, standoff -0.07, extent 0.951,-3.047 1.449,-2.55
3D body: height 0.43, standoff -0.07, extent 1.751,-3.047 2.249,-2.55
3D body: height 0.43, standoff -0.07, extent 2.551,-3.047 3.049,-2.55
3D body: height 0.43, standoff -0.07, extent -1.449,-1.447 -0.951,-0.95
3D body: height 0.43, standoff -0.07, extent -0.649,-1.447 -0.151,-0.95
3D body: height 0.43, standoff -0.07, extent 0.151,-1.447 0.649,-0.95
3D body: height 0.43, standoff -0.07, extent 0.151,-2.247 0.649,-1.75
3D body: height 0.43, standoff -0.07, extent -0.649,-2.247 -0.151,-1.75
3D body: height 0.43, standoff -0.07, extent -1.449,-2.247 -0.951,-1.75
3D body: height 0.43, standoff -0.07, extent -1.449,-3.047 -0.951,-2.55
3D body: height 0.43, standoff -0.07, extent -0.649,-3.047 -0.151,-2.55
3D body: height 0.43, standoff -0.07, extent 0.151,-3.047 0.649,-2.55
3D body: height 0.43, standoff -0.07, extent -3.849,-1.447 -3.351,-0.95
3D body: height 0.43, standoff -0.07, extent -3.049,-1.447 -2.551,-0.95
3D body: height 0.43, standoff -0.07, extent -2.249,-1.447 -1.751,-0.95
3D body: height 0.43, standoff -0.07, extent -2.249,-2.247 -1.751,-1.75
3D body: height 0.43, standoff -0.07, extent -3.049,-2.247 -2.551,-1.75
3D body: height 0.43, standoff -0.07, extent -3.849,-2.247 -3.351,-1.75
3D body: height 0.43, standoff -0.07, extent -3.849,-3.047 -3.351,-2.55
3D body: height 0.43, standoff -0.07, extent -3.049,-3.047 -2.551,-2.55
3D body: height 0.43, standoff -0.07, extent -2.249,-3.047 -1.751,-2.55
3D body: height 0.43, standoff -0.07, extent -6.249,-1.447 -5.751,-0.95
3D body: height 0.43, standoff -0.07, extent -5.449,-1.447 -4.951,-0.95
3D body: height 0.43, standoff -0.07, extent -4.649,-1.447 -4.151,-0.95
3D body: height 0.43, standoff -0.07, extent -4.649,-2.247 -4.151,-1.75
3D body: height 0.43, standoff -0.07, extent -5.449,-2.247 -4.951,-1.75
3D body: height 0.43, standoff -0.07, extent -6.249,-2.247 -5.751,-1.75
3D body: height 0.43, standoff -0.07, extent -6.249,-3.047 -5.751,-2.55
3D body: height 0.43, standoff -0.07, extent -5.449,-3.047 -4.951,-2.55
3D body: height 0.43, standoff -0.07, extent -4.649,-3.047 -4.151,-2.55
3D body: height 0.43, standoff -0.07, extent -8.649,-1.447 -8.151,-0.95
3D body: height 0.43, standoff -0.07, extent -7.849,-1.447 -7.351,-0.95
3D body: height 0.43, standoff -0.07, extent -7.049,-1.447 -6.551,-0.95
3D body: height 0.43, standoff -0.07, extent -7.049,-2.247 -6.551,-1.75
3D body: height 0.43, standoff -0.07, extent -7.849,-2.247 -7.351,-1.75
3D body: height 0.43, standoff -0.07, extent -8.649,-2.247 -8.151,-1.75
3D body: height 0.43, standoff -0.07, extent -8.649,-3.047 -8.151,-2.55
3D body: height 0.43, standoff -0.07, extent -7.849,-3.047 -7.351,-2.55
3D body: height 0.43, standoff -0.07, extent -7.049,-3.047 -6.551,-2.55
3D body: height 0.43, standoff -0.07, extent -9.449,-3.047 -8.951,-2.55
3D body: height 0.43, standoff -0.07, extent -10.249,-3.047 -9.751,-2.55
3D body: height 0.43, standoff -0.07, extent -11.049,-3.047 -10.551,-2.55
3D body: height 0.43, standoff -0.07, extent -11.049,-2.247 -10.551,-1.75
3D body: height 0.43, standoff -0.07, extent -10.249,-2.247 -9.751,-1.75
3D body: height 0.43, standoff -0.07, extent -9.449,-2.247 -8.951,-1.75
3D body: height 0.43, standoff -0.07, extent -9.449,-1.447 -8.951,-0.95
3D body: height 0.43, standoff -0.07, extent -10.249,-1.447 -9.751,-0.95
3D body: height 0.43, standoff -0.07, extent -11.049,-1.447 -10.551,-0.95
3D body: height 0.43, standoff -0.07, extent 10.551,-3.847 11.049,-3.35
3D body: height 0.43, standoff -0.07, extent 10.551,-4.647 11.049,-4.15
3D body: height 0.43, standoff -0.07, extent 10.551,-5.447 11.049,-4.95
3D body: height 0.43, standoff -0.07, extent 8.151,-3.847 8.649,-3.35
3D body: height 0.43, standoff -0.07, extent 8.951,-3.847 9.449,-3.35
3D body: height 0.43, standoff -0.07, extent 9.751,-3.847 10.249,-3.35
3D body: height 0.43, standoff -0.07, extent 9.751,-4.647 10.249,-4.15
3D body: height 0.43, standoff -0.07, extent 8.951,-4.647 9.449,-4.15
3D body: height 0.43, standoff -0.07, extent 8.151,-4.647 8.649,-4.15
3D body: height 0.43, standoff -0.07, extent 8.151,-5.447 8.649,-4.95
3D body: height 0.43, standoff -0.07, extent 8.951,-5.447 9.449,-4.95
3D body: height 0.43, standoff -0.07, extent 9.751,-5.447 10.249,-4.95
3D body: height 0.43, standoff -0.07, extent 5.751,-3.847 6.249,-3.35
3D body: height 0.43, standoff -0.07, extent 6.551,-3.847 7.049,-3.35
3D body: height 0.43, standoff -0.07, extent 7.351,-3.847 7.849,-3.35
3D body: height 0.43, standoff -0.07, extent 7.351,-4.647 7.849,-4.15
3D body: height 0.43, standoff -0.07, extent 6.551,-4.647 7.049,-4.15
3D body: height 0.43, standoff -0.07, extent 5.751,-4.647 6.249,-4.15
3D body: height 0.43, standoff -0.07, extent 5.751,-5.447 6.249,-4.95
3D body: height 0.43, standoff -0.07, extent 6.551,-5.447 7.049,-4.95
3D body: height 0.43, standoff -0.07, extent 7.351,-5.447 7.849,-4.95
3D body: height 0.43, standoff -0.07, extent 3.351,-3.847 3.849,-3.35
3D body: height 0.43, standoff -0.07, extent 4.151,-3.847 4.649,-3.35
3D body: height 0.43, standoff -0.07, extent 4.951,-3.847 5.449,-3.35
3D body: height 0.43, standoff -0.07, extent 4.951,-4.647 5.449,-4.15
3D body: height 0.43, standoff -0.07, extent 4.151,-4.647 4.649,-4.15
3D body: height 0.43, standoff -0.07, extent 3.351,-4.647 3.849,-4.15
3D body: height 0.43, standoff -0.07, extent 3.351,-5.447 3.849,-4.95
3D body: height 0.43, standoff -0.07, extent 4.151,-5.447 4.649,-4.95
3D body: height 0.43, standoff -0.07, extent 4.951,-5.447 5.449,-4.95
3D body: height 0.43, standoff -0.07, extent 0.951,-3.847 1.449,-3.35
3D body: height 0.43, standoff -0.07, extent 1.751,-3.847 2.249,-3.35
3D body: height 0.43, standoff -0.07, extent 2.551,-3.847 3.049,-3.35
3D body: height 0.43, standoff -0.07, extent 2.551,-4.647 3.049,-4.15
3D body: height 0.43, standoff -0.07, extent 1.751,-4.647 2.249,-4.15
3D body: height 0.43, standoff -0.07, extent 0.951,-4.647 1.449,-4.15
3D body: height 0.43, standoff -0.07, extent 0.951,-5.447 1.449,-4.95
3D body: height 0.43, standoff -0.07, extent 1.751,-5.447 2.249,-4.95
3D body: height 0.43, standoff -0.07, extent 2.551,-5.447 3.049,-4.95
3D body: height 0.43, standoff -0.07, extent -1.449,-3.847 -0.951,-3.35
3D body: height 0.43, standoff -0.07, extent -0.649,-3.847 -0.151,-3.35
3D body: height 0.43, standoff -0.07, extent 0.151,-3.847 0.649,-3.35
3D body: height 0.43, standoff -0.07, extent 0.151,-4.647 0.649,-4.15
3D body: height 0.43, standoff -0.07, extent -0.649,-4.647 -0.151,-4.15
3D body: height 0.43, standoff -0.07, extent -1.449,-4.647 -0.951,-4.15
3D body: height 0.43, standoff -0.07, extent -1.449,-5.447 -0.951,-4.95
3D body: height 0.43, standoff -0.07, extent -0.649,-5.447 -0.151,-4.95
3D body: height 0.43, standoff -0.07, extent 0.151,-5.447 0.649,-4.95
3D body: height 0.43, standoff -0.07, extent -3.849,-3.847 -3.351,-3.35
3D body: height 0.43, standoff -0.07, extent -3.049,-3.847 -2.551,-3.35
3D body: height 0.43, standoff -0.07, extent -2.249,-3.847 -1.751,-3.35
3D body: height 0.43, standoff -0.07, extent -2.249,-4.647 -1.751,-4.15
3D body: height 0.43, standoff -0.07, extent -3.049,-4.647 -2.551,-4.15
3D body: height 0.43, standoff -0.07, extent -3.849,-4.647 -3.351,-4.15
3D body: height 0.43, standoff -0.07, extent -3.849,-5.447 -3.351,-4.95
3D body: height 0.43, standoff -0.07, extent -3.049,-5.447 -2.551,-4.95
3D body: height 0.43, standoff -0.07, extent -2.249,-5.447 -1.751,-4.95
3D body: height 0.43, standoff -0.07, extent -6.249,-3.847 -5.751,-3.35
3D body: height 0.43, standoff -0.07, extent -5.449,-3.847 -4.951,-3.35
3D body: height 0.43, standoff -0.07, extent -4.649,-3.847 -4.151,-3.35
3D body: height 0.43, standoff -0.07, extent -4.649,-4.647 -4.151,-4.15
3D body: height 0.43, standoff -0.07, extent -5.449,-4.647 -4.951,-4.15
3D body: height 0.43, standoff -0.07, extent -6.249,-4.647 -5.751,-4.15
3D body: height 0.43, standoff -0.07, extent -6.249,-5.447 -5.751,-4.95
3D body: height 0.43, standoff -0.07, extent -5.449,-5.447 -4.951,-4.95
3D body: height 0.43, standoff -0.07, extent -4.649,-5.447 -4.151,-4.95
3D body: height 0.43, standoff -0.07, extent -8.649,-3.847 -8.151,-3.35
3D body: height 0.43, standoff -0.07, extent -7.849,-3.847 -7.351,-3.35
3D body: height 0.43, standoff -0.07, extent -7.049,-3.847 -6.551,-3.35
3D body: height 0.43, standoff -0.07, extent -7.049,-4.647 -6.551,-4.15
3D body: height 0.43, standoff -0.07, extent -7.849,-4.647 -7.351,-4.15
3D body: height 0.43, standoff -0.07, extent -8.649,-4.647 -8.151,-4.15
3D body: height 0.43, standoff -0.07, extent -8.649,-5.447 -8.151,-4.95
3D body: height 0.43, standoff -0.07, extent -7.849,-5.447 -7.351,-4.95
3D body: height 0.43, standoff -0.07, extent -7.049,-5.447 -6.551,-4.95
3D body: height 0.43, standoff -0.07, extent -9.449,-5.447 -8.951,-4.95
3D body: height 0.43, standoff -0.07, extent -10.249,-5.447 -9.751,-4.95
3D body: height 0.43, standoff -0.07, extent -11.049,-5.447 -10.551,-4.95
3D body: height 0.43, standoff -0.07, extent -11.049,-4.647 -10.551,-4.15
3D body: height 0.43, standoff -0.07, extent -10.249,-4.647 -9.751,-4.15
3D body: height 0.43, standoff -0.07, extent -9.449,-4.647 -8.951,-4.15
3D body: height 0.43, standoff -0.07, extent -9.449,-3.847 -8.951,-3.35
3D body: height 0.43, standoff -0.07, extent -10.249,-3.847 -9.751,-3.35
3D body: height 0.43, standoff -0.07, extent -11.049,-3.847 -10.551,-3.35
3D body: height 0.43, standoff -0.07, extent 10.551,-6.247 11.049,-5.75
3D body: height 0.43, standoff -0.07, extent 10.551,-7.047 11.049,-6.55
3D body: height 0.43, standoff -0.07, extent 10.551,-7.847 11.049,-7.35
3D body: height 0.43, standoff -0.07, extent 8.151,-6.247 8.649,-5.75
3D body: height 0.43, standoff -0.07, extent 8.951,-6.247 9.449,-5.75
3D body: height 0.43, standoff -0.07, extent 9.751,-6.247 10.249,-5.75
3D body: height 0.43, standoff -0.07, extent 9.751,-7.047 10.249,-6.55
3D body: height 0.43, standoff -0.07, extent 8.951,-7.047 9.449,-6.55
3D body: height 0.43, standoff -0.07, extent 8.151,-7.047 8.649,-6.55
3D body: height 0.43, standoff -0.07, extent 8.151,-7.847 8.649,-7.35
3D body: height 0.43, standoff -0.07, extent 8.951,-7.847 9.449,-7.35
3D body: height 0.43, standoff -0.07, extent 9.751,-7.847 10.249,-7.35
3D body: height 0.43, standoff -0.07, extent 5.751,-6.247 6.249,-5.75
3D body: height 0.43, standoff -0.07, extent 6.551,-6.247 7.049,-5.75
3D body: height 0.43, standoff -0.07, extent 7.351,-6.247 7.849,-5.75
3D body: height 0.43, standoff -0.07, extent 7.351,-7.047 7.849,-6.55
3D body: height 0.43, standoff -0.07, extent 6.551,-7.047 7.049,-6.55
3D body: height 0.43, standoff -0.07, extent 5.751,-7.047 6.249,-6.55
3D body: height 0.43, standoff -0.07, extent 5.751,-7.847 6.249,-7.35
3D body: height 0.43, standoff -0.07, extent 6.551,-7.847 7.049,-7.35
3D body: height 0.43, standoff -0.07, extent 7.351,-7.847 7.849,-7.35
3D body: height 0.43, standoff -0.07, extent 3.351,-6.247 3.849,-5.75
3D body: height 0.43, standoff -0.07, extent 4.151,-6.247 4.649,-5.75
3D body: height 0.43, standoff -0.07, extent 4.951,-6.247 5.449,-5.75
3D body: height 0.43, standoff -0.07, extent 4.951,-7.047 5.449,-6.55
3D body: height 0.43, standoff -0.07, extent 4.151,-7.047 4.649,-6.55
3D body: height 0.43, standoff -0.07, extent 3.351,-7.047 3.849,-6.55
3D body: height 0.43, standoff -0.07, extent 3.351,-7.847 3.849,-7.35
3D body: height 0.43, standoff -0.07, extent 4.151,-7.847 4.649,-7.35
3D body: height 0.43, standoff -0.07, extent 4.951,-7.847 5.449,-7.35
3D body: height 0.43, standoff -0.07, extent 0.951,-6.247 1.449,-5.75
3D body: height 0.43, standoff -0.07, extent 1.751,-6.247 2.249,-5.75
3D body: height 0.43, standoff -0.07, extent 2.551,-6.247 3.049,-5.75
3D body: height 0.43, standoff -0.07, extent 2.551,-7.047 3.049,-6.55
3D body: height 0.43, standoff -0.07, extent 1.751,-7.047 2.249,-6.55
3D body: height 0.43, standoff -0.07, extent 0.951,-7.047 1.449,-6.55
3D body: height 0.43, standoff -0.07, extent 0.951,-7.847 1.449,-7.35
3D body: height 0.43, standoff -0.07, extent 1.751,-7.847 2.249,-7.35
3D body: height 0.43, standoff -0.07, extent 2.551,-7.847 3.049,-7.35
3D body: height 0.43, standoff -0.07, extent -1.449,-6.247 -0.951,-5.75
3D body: height 0.43, standoff -0.07, extent -0.649,-6.247 -0.151,-5.75
3D body: height 0.43, standoff -0.07, extent 0.151,-6.247 0.649,-5.75
3D body: height 0.43, standoff -0.07, extent 0.151,-7.047 0.649,-6.55
3D body: height 0.43, standoff -0.07, extent -0.649,-7.047 -0.151,-6.55
3D body: height 0.43, standoff -0.07, extent -1.449,-7.047 -0.951,-6.55
3D body: height 0.43, standoff -0.07, extent -1.449,-7.847 -0.951,-7.35
3D body: height 0.43, standoff -0.07, extent -0.649,-7.847 -0.151,-7.35
3D body: height 0.43, standoff -0.07, extent 0.151,-7.847 0.649,-7.35
3D body: height 0.43, standoff -0.07, extent -3.849,-6.247 -3.351,-5.75
3D body: height 0.43, standoff -0.07, extent -3.049,-6.247 -2.551,-5.75
3D body: height 0.43, standoff -0.07, extent -2.249,-6.247 -1.751,-5.75
3D body: height 0.43, standoff -0.07, extent -2.249,-7.047 -1.751,-6.55
3D body: height 0.43, standoff -0.07, extent -3.049,-7.047 -2.551,-6.55
3D body: height 0.43, standoff -0.07, extent -3.849,-7.047 -3.351,-6.55
3D body: height 0.43, standoff -0.07, extent -3.849,-7.847 -3.351,-7.35
3D body: height 0.43, standoff -0.07, extent -3.049,-7.847 -2.551,-7.35
3D body: height 0.43, standoff -0.07, extent -2.249,-7.847 -1.751,-7.35
3D body: height 0.43, standoff -0.07, extent -6.249,-6.247 -5.751,-5.75
3D body: height 0.43, standoff -0.07, extent -5.449,-6.247 -4.951,-5.75
3D body: height 0.43, standoff -0.07, extent -4.649,-6.247 -4.151,-5.75
3D body: height 0.43, standoff -0.07, extent -4.649,-7.047 -4.151,-6.55
3D body: height 0.43, standoff -0.07, extent -5.449,-7.047 -4.951,-6.55
3D body: height 0.43, standoff -0.07, extent -6.249,-7.047 -5.751,-6.55
3D body: height 0.43, standoff -0.07, extent -6.249,-7.847 -5.751,-7.35
3D body: height 0.43, standoff -0.07, extent -5.449,-7.847 -4.951,-7.35
3D body: height 0.43, standoff -0.07, extent -4.649,-7.847 -4.151,-7.35
3D body: height 0.43, standoff -0.07, extent -8.649,-6.247 -8.151,-5.75
3D body: height 0.43, standoff -0.07, extent -7.849,-6.247 -7.351,-5.75
3D body: height 0.43, standoff -0.07, extent -7.049,-6.247 -6.551,-5.75
3D body: height 0.43, standoff -0.07, extent -7.049,-7.047 -6.551,-6.55
3D body: height 0.43, standoff -0.07, extent -7.849,-7.047 -7.351,-6.55
3D body: height 0.43, standoff -0.07, extent -8.649,-7.047 -8.151,-6.55
3D body: height 0.43, standoff -0.07, extent -8.649,-7.847 -8.151,-7.35
3D body: height 0.43, standoff -0.07, extent -7.849,-7.847 -7.351,-7.35
3D body: height 0.43, standoff -0.07, extent -7.049,-7.847 -6.551,-7.35
3D body: height 0.43, standoff -0.07, extent -9.449,-7.847 -8.951,-7.35
3D body: height 0.43, standoff -0.07, extent -10.249,-7.847 -9.751,-7.35
3D body: height 0.43, standoff -0.07, extent -11.049,-7.847 -10.551,-7.35
3D body: height 0.43, standoff -0.07, extent -11.049,-7.047 -10.551,-6.55
3D body: height 0.43, standoff -0.07, extent -10.249,-7.047 -9.751,-6.55
3D body: height 0.43, standoff -0.07, extent -9.449,-7.047 -8.951,-6.55
3D body: height 0.43, standoff -0.07, extent -9.449,-6.247 -8.951,-5.75
3D body: height 0.43, standoff -0.07, extent -10.249,-6.247 -9.751,-5.75
3D body: height 0.43, standoff -0.07, extent -11.049,-6.247 -10.551,-5.75
3D body: height 0.43, standoff -0.07, extent 10.551,-8.647 11.049,-8.15
3D body: height 0.43, standoff -0.07, extent 10.551,-9.447 11.049,-8.95
3D body: height 0.43, standoff -0.07, extent 10.551,-10.247 11.049,-9.75
3D body: height 0.43, standoff -0.07, extent 8.151,-8.647 8.649,-8.15
3D body: height 0.43, standoff -0.07, extent 8.951,-8.647 9.449,-8.15
3D body: height 0.43, standoff -0.07, extent 9.751,-8.647 10.249,-8.15
3D body: height 0.43, standoff -0.07, extent 9.751,-9.447 10.249,-8.95
3D body: height 0.43, standoff -0.07, extent 8.951,-9.447 9.449,-8.95
3D body: height 0.43, standoff -0.07, extent 8.151,-9.447 8.649,-8.95
3D body: height 0.43, standoff -0.07, extent 8.151,-10.247 8.649,-9.75
3D body: height 0.43, standoff -0.07, extent 8.951,-10.247 9.449,-9.75
3D body: height 0.43, standoff -0.07, extent 9.751,-10.247 10.249,-9.75
3D body: height 0.43, standoff -0.07, extent 5.751,-8.647 6.249,-8.15
3D body: height 0.43, standoff -0.07, extent 6.551,-8.647 7.049,-8.15
3D body: height 0.43, standoff -0.07, extent 7.351,-8.647 7.849,-8.15
3D body: height 0.43, standoff -0.07, extent 7.351,-9.447 7.849,-8.95
3D body: height 0.43, standoff -0.07, extent 6.551,-9.447 7.049,-8.95
3D body: height 0.43, standoff -0.07, extent 5.751,-9.447 6.249,-8.95
3D body: height 0.43, standoff -0.07, extent 5.751,-10.247 6.249,-9.75
3D body: height 0.43, standoff -0.07, extent 6.551,-10.247 7.049,-9.75
3D body: height 0.43, standoff -0.07, extent 7.351,-10.247 7.849,-9.75
3D body: height 0.43, standoff -0.07, extent 3.351,-8.647 3.849,-8.15
3D body: height 0.43, standoff -0.07, extent 4.151,-8.647 4.649,-8.15
3D body: height 0.43, standoff -0.07, extent 4.951,-8.647 5.449,-8.15
3D body: height 0.43, standoff -0.07, extent 4.951,-9.447 5.449,-8.95
3D body: height 0.43, standoff -0.07, extent 4.151,-9.447 4.649,-8.95
3D body: height 0.43, standoff -0.07, extent 3.351,-9.447 3.849,-8.95
3D body: height 0.43, standoff -0.07, extent 3.351,-10.247 3.849,-9.75
3D body: height 0.43, standoff -0.07, extent 4.151,-10.247 4.649,-9.75
3D body: height 0.43, standoff -0.07, extent 4.951,-10.247 5.449,-9.75
3D body: height 0.43, standoff -0.07, extent 0.951,-8.647 1.449,-8.15
3D body: height 0.43, standoff -0.07, extent 1.751,-8.647 2.249,-8.15
3D body: height 0.43, standoff -0.07, extent 2.551,-8.647 3.049,-8.15
3D body: height 0.43, standoff -0.07, extent 2.551,-9.447 3.049,-8.95
3D body: height 0.43, standoff -0.07, extent 1.751,-9.447 2.249,-8.95
3D body: height 0.43, standoff -0.07, extent 0.951,-9.447 1.449,-8.95
3D body: height 0.43, standoff -0.07, extent 0.951,-10.247 1.449,-9.75
3D body: height 0.43, standoff -0.07, extent 1.751,-10.247 2.249,-9.75
3D body: height 0.43, standoff -0.07, extent 2.551,-10.247 3.049,-9.75
3D body: height 0.43, standoff -0.07, extent -1.449,-8.647 -0.951,-8.15
3D body: height 0.43, standoff -0.07, extent -0.649,-8.647 -0.151,-8.15
3D body: height 0.43, standoff -0.07, extent 0.151,-8.647 0.649,-8.15
3D body: height 0.43, standoff -0.07, extent 0.151,-9.447 0.649,-8.95
3D body: height 0.43, standoff -0.07, extent -0.649,-9.447 -0.151,-8.95
3D body: height 0.43, standoff -0.07, extent -1.449,-9.447 -0.951,-8.95
3D body: height 0.43, standoff -0.07, extent -1.449,-10.247 -0.951,-9.75
3D body: height 0.43, standoff -0.07, extent -0.649,-10.247 -0.151,-9.75
3D body: height 0.43, standoff -0.07, extent 0.151,-10.247 0.649,-9.75
3D body: height 0.43, standoff -0.07, extent -3.849,-8.647 -3.351,-8.15
3D body: height 0.43, standoff -0.07, extent -3.049,-8.647 -2.551,-8.15
3D body: height 0.43, standoff -0.07, extent -2.249,-8.647 -1.751,-8.15
3D body: height 0.43, standoff -0.07, extent -2.249,-9.447 -1.751,-8.95
3D body: height 0.43, standoff -0.07, extent -3.049,-9.447 -2.551,-8.95
3D body: height 0.43, standoff -0.07, extent -3.849,-9.447 -3.351,-8.95
3D body: height 0.43, standoff -0.07, extent -3.849,-10.247 -3.351,-9.75
3D body: height 0.43, standoff -0.07, extent -3.049,-10.247 -2.551,-9.75
3D body: height 0.43, standoff -0.07, extent -2.249,-10.247 -1.751,-9.75
3D body: height 0.43, standoff -0.07, extent -6.249,-8.647 -5.751,-8.15
3D body: height 0.43, standoff -0.07, extent -5.449,-8.647 -4.951,-8.15
3D body: height 0.43, standoff -0.07, extent -4.649,-8.647 -4.151,-8.15
3D body: height 0.43, standoff -0.07, extent -4.649,-9.447 -4.151,-8.95
3D body: height 0.43, standoff -0.07, extent -5.449,-9.447 -4.951,-8.95
3D body: height 0.43, standoff -0.07, extent -6.249,-9.447 -5.751,-8.95
3D body: height 0.43, standoff -0.07, extent -6.249,-10.247 -5.751,-9.75
3D body: height 0.43, standoff -0.07, extent -5.449,-10.247 -4.951,-9.75
3D body: height 0.43, standoff -0.07, extent -4.649,-10.247 -4.151,-9.75
3D body: height 0.43, standoff -0.07, extent -8.649,-8.647 -8.151,-8.15
3D body: height 0.43, standoff -0.07, extent -7.849,-8.647 -7.351,-8.15
3D body: height 0.43, standoff -0.07, extent -7.049,-8.647 -6.551,-8.15
3D body: height 0.43, standoff -0.07, extent -7.049,-9.447 -6.551,-8.95
3D body: height 0.43, standoff -0.07, extent -7.849,-9.447 -7.351,-8.95
3D body: height 0.43, standoff -0.07, extent -8.649,-9.447 -8.151,-8.95
3D body: height 0.43, standoff -0.07, extent -8.649,-10.247 -8.151,-9.75
3D body: height 0.43, standoff -0.07, extent -7.849,-10.247 -7.351,-9.75
3D body: height 0.43, standoff -0.07, extent -7.049,-10.247 -6.551,-9.75
3D body: height 0.43, standoff -0.07, extent -9.449,-10.247 -8.951,-9.75
3D body: height 0.43, standoff -0.07, extent -10.249,-10.247 -9.751,-9.75
3D body: height 0.43, standoff -0.07, extent -11.049,-10.247 -10.551,-9.75
3D body: height 0.43, standoff -0.07, extent -11.049,-9.447 -10.551,-8.95
3D body: height 0.43, standoff -0.07, extent -10.249,-9.447 -9.751,-8.95
3D body: height 0.43, standoff -0.07, extent -9.449,-9.447 -8.951,-8.95
3D body: height 0.43, standoff -0.07, extent -9.449,-8.647 -8.951,-8.15
3D body: height 0.43, standoff -0.07, extent -10.249,-8.647 -9.751,-8.15
3D body: height 0.43, standoff -0.07, extent -11.049,-8.647 -10.551,-8.15
3D body: height 0.43, standoff -0.07, extent 10.551,-11.047 11.049,-10.55
3D body: height 0.43, standoff -0.07, extent 8.151,-11.047 8.649,-10.55
3D body: height 0.43, standoff -0.07, extent 8.951,-11.047 9.449,-10.55
3D body: height 0.43, standoff -0.07, extent 9.751,-11.047 10.249,-10.55
3D body: height 0.43, standoff -0.07, extent 5.751,-11.047 6.249,-10.55
3D body: height 0.43, standoff -0.07, extent 6.551,-11.047 7.049,-10.55
3D body: height 0.43, standoff -0.07, extent 7.351,-11.047 7.849,-10.55
3D body: height 0.43, standoff -0.07, extent 3.351,-11.047 3.849,-10.55
3D body: height 0.43, standoff -0.07, extent 4.151,-11.047 4.649,-10.55
3D body: height 0.43, standoff -0.07, extent 4.951,-11.047 5.449,-10.55
3D body: height 0.43, standoff -0.07, extent 0.951,-11.047 1.449,-10.55
3D body: height 0.43, standoff -0.07, extent 1.751,-11.047 2.249,-10.55
3D body: height 0.43, standoff -0.07, extent 2.551,-11.047 3.049,-10.55
3D body: height 0.43, standoff -0.07, extent -1.449,-11.047 -0.951,-10.55
3D body: height 0.43, standoff -0.07, extent -0.649,-11.047 -0.151,-10.55
3D body: height 0.43, standoff -0.07, extent 0.151,-11.047 0.649,-10.55
3D body: height 0.43, standoff -0.07, extent -3.849,-11.047 -3.351,-10.55
3D body: height 0.43, standoff -0.07, extent -3.049,-11.047 -2.551,-10.55
3D body: height 0.43, standoff -0.07, extent -2.249,-11.047 -1.751,-10.55
3D body: height 0.43, standoff -0.07, extent -6.249,-11.047 -5.751,-10.55
3D body: height 0.43, standoff -0.07, extent -5.449,-11.047 -4.951,-10.55
3D body: height 0.43, standoff -0.07, extent -4.649,-11.047 -4.151,-10.55
3D body: height 0.43, standoff -0.07, extent -8.649,-11.047 -8.151,-10.55
3D body: height 0.43, standoff -0.07, extent -7.849,-11.047 -7.351,-10.55
3D body: height 0.43, standoff -0.07, extent -7.049,-11.047 -6.551,-10.55
3D body: height 0.43, standoff -0.07, extent -9.449,-11.047 -8.951,-10.55
3D body: height 0.43, standoff -0.07, extent -10.249,-11.047 -9.751,-10.55
3D body: height 0.43, standoff -0.07, extent -11.049,-11.047 -10.551,-10.55
3D body: height 1.8, standoff 0.4, extent -11.5,-11.5 11.5,11.5
3D body: height 2.5, standoff 1.8, extent -11.503,-11.5 11.5,11.503